# Altium footprint library LTRBGFSF.PcbLib: 1 footprints
Each footprint in its own frame and in the unit in brackets; x right, y up, seen from the top. Pads: shape width x height; smd on the part's side, far side on the other; paste and mask are expansions set on the pad; w line width, h text height; cw(c..) or ccw(c..) is an arc to the next point about the centre after c.
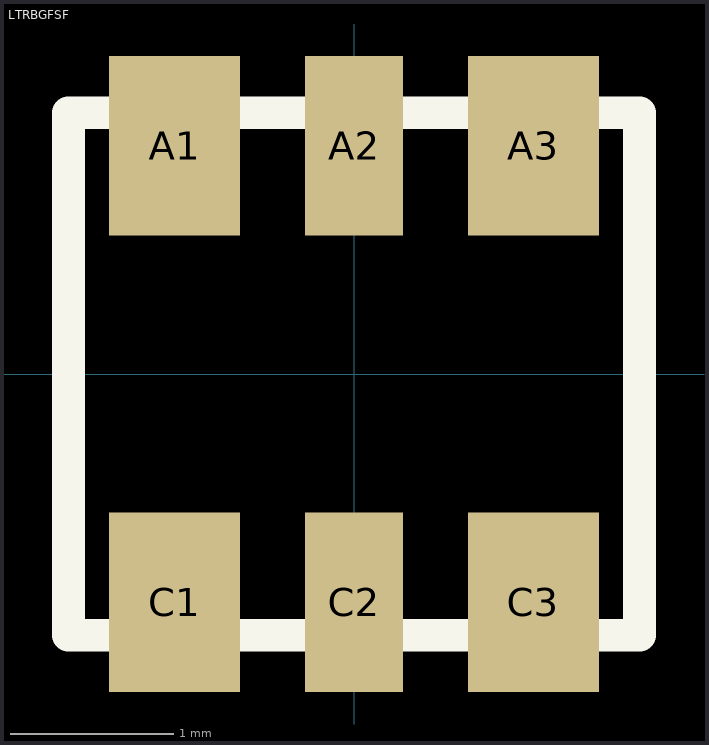
[diagram p0: the footprint, top view; thin cyan lines are the x and y axes]

## LTRBGFSF [mm]
pads (6):
  rect 0.8x1.1 smd: A1(-1.1,1.4) A3(1.1,1.4) C1(-1.1,-1.4) C3(1.1,-1.4)
  rect 0.6x1.1 smd: A2(0,1.4) C2(0,-1.4)
Top Overlay:
  lines w0.2: -1.75,-1.6 -1.75,1.6 1.75,1.6 1.75,-1.6 -1.75,-1.6
3D body: height 2.01, standoff 0, extent -1.75,-1.8 1.75,1.8